# Altium schematic symbol library Transistor.SchLib: 4 symbols
Pins are listed as number, name and electrical type; pins without a type are passive.

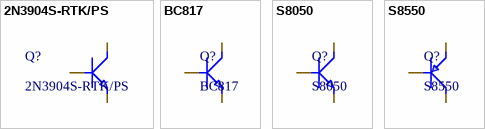
[diagram p0: symbols 2N3904S-RTK/PS to S8550]

## 2N3904S-RTK/PS
designator Q?
40V 100@10mA,1V 350mW 200mA NPN SOT-23 Bipolar (BJT) ROHS; Manufacturer: KEC; Key Attributes: TRANS NPN 40V 200mA SOT-23; Mfr. Part #: 2N3904S-RTK/PS; LCSC Part #: C18536; Package: SOT-23; Link: https://www.lcsc.com/product-detail/C18536.html?s_z=n_2N3904
footprint 2N3904S-RTK/PS
pins: 1 E, 2 B, 3 C

## BC817
designator Q?
45V 160@100mA,1V 250mW 500mA NPN SOT-23 Bipolar (BJT) ROHS; Manufacturer: Nexperia; Key Attributes: TRANS NPN 45V 500mA SOT-23; Number: 1 NPN; Transition frequency(fT): 100MHz; Emitter-Base Voltage(Vebo): 5V; Mfr. Part #: BC817; LCSC Part #: C39828; Package: SOT-23; Link: https://www.lcsc.com/product-detail/C39828.html?s_z=n_bc817; type: NPN; Collector - Emitter Voltage VCEO: 45V
footprint BC817
pins: 1, 2, 3

## S8050
designator Q?
25V 300mW 500mA SOT-23 Bipolar (BJT) ROHS; Manufacturer: JSMSEMI; Key Attributes: TRANS 25V 500mA SOT-23; Transition frequency(fT): 150MHz; Vce Saturation(VCE(sat)): 600mV; Mfr. Part #: S8050; LCSC Part #: C916390; Package: SOT-23; Link: https://www.lcsc.com/product-detail/C916390.html?s_z=n_s8050; Current - Collector(Ic): 500mA
footprint S8050
pins: 1 B, 2 E, 3 C

## S8550
designator Q?
25V 400@50mA,1V 300mW 500mA PNP SOT-23 Bipolar (BJT) ROHS; Manufacturer: YONGYUTAI; Key Attributes: TRANS PNP 25V 0.5A SOT-23; Vce Saturation(VCE(sat)): 500mV@500mA,50mA; Mfr. Part #: S8550; LCSC Part #: C2891805; Package: SOT-23; Link: https://www.lcsc.com/product-detail/C2891805.html?s_z=n_s8550; Current - Collector(Ic): 500mA
footprint S8550
pins: 1 B, 2 E, 3 C